# EAGLE library part W237-08P (library con-wago-508)
WAGO SREW CLAMP
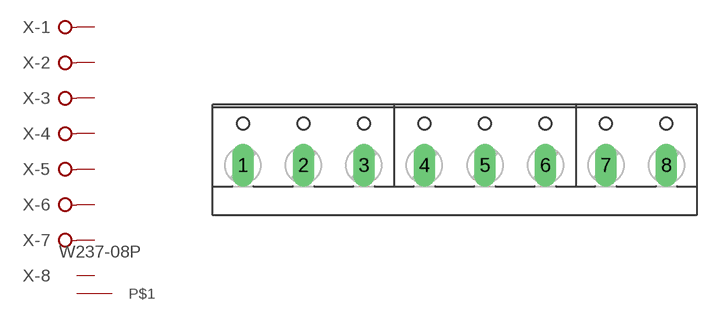
[diagram p2: symbol with the pads of W237-8P; footprint W237-8P]

Designator prefix X; gates -1=KL -2=KL -3=KL -4=KL -5=KL -6=KL -7=KL -8=TE796638

## W237-08P (OC_FARNELL: unknown; OC_NEWARK: unknown)  [W237-8P]
1  -1:KL  pas
2  -2:KL  pas
3  -3:KL  pas
4  -4:KL  pas
5  -5:KL  pas
6  -6:KL  pas
7  -7:KL  pas
8  -8:KL  pas

## Footprint W237-8P (pad centres in mm)
WAGO SREW CLAMP
drill 1.194 long: 1 -17.78,-0.635; 2 -12.7,-0.635; 3 -7.62,-0.635; 4 -2.54,-0.635; 5 2.54,-0.635; 6 7.62,-0.635; 7 12.7,-0.635; 8 17.78,-0.635